# EAGLE library part LTC4065A (library balto)
Standalone 750mA Li-Ion Battery Charger in 2 × 2 DFN
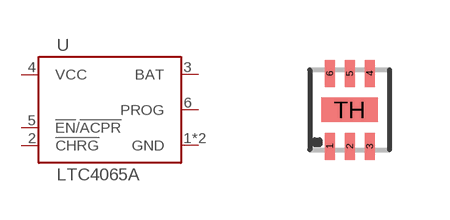
[diagram p47: symbol with the pads of DFN6; footprint DFN6]

Designator prefix U

## LTC4065A  [DFN6]
1  GND
2  !CHRG
3  BAT
4  VCC
5  !EN!/!ACPR
6  PROG
TH  GND

## Footprint DFN6 (pad centres in mm)
smd 0.25 x 0.675: 1 -0.5,-0.912; 2 0,-0.912; 3 0.5,-0.912; 4 0.5,0.912; 5 0,0.912; 6 -0.5,0.912
smd 1.42 x 0.61: TH 0,0